# Altium integrated library TI Amplifiers and Linear Operational Amplifier High Speed.IntLib: 1100 symbols (part 26 of 44)
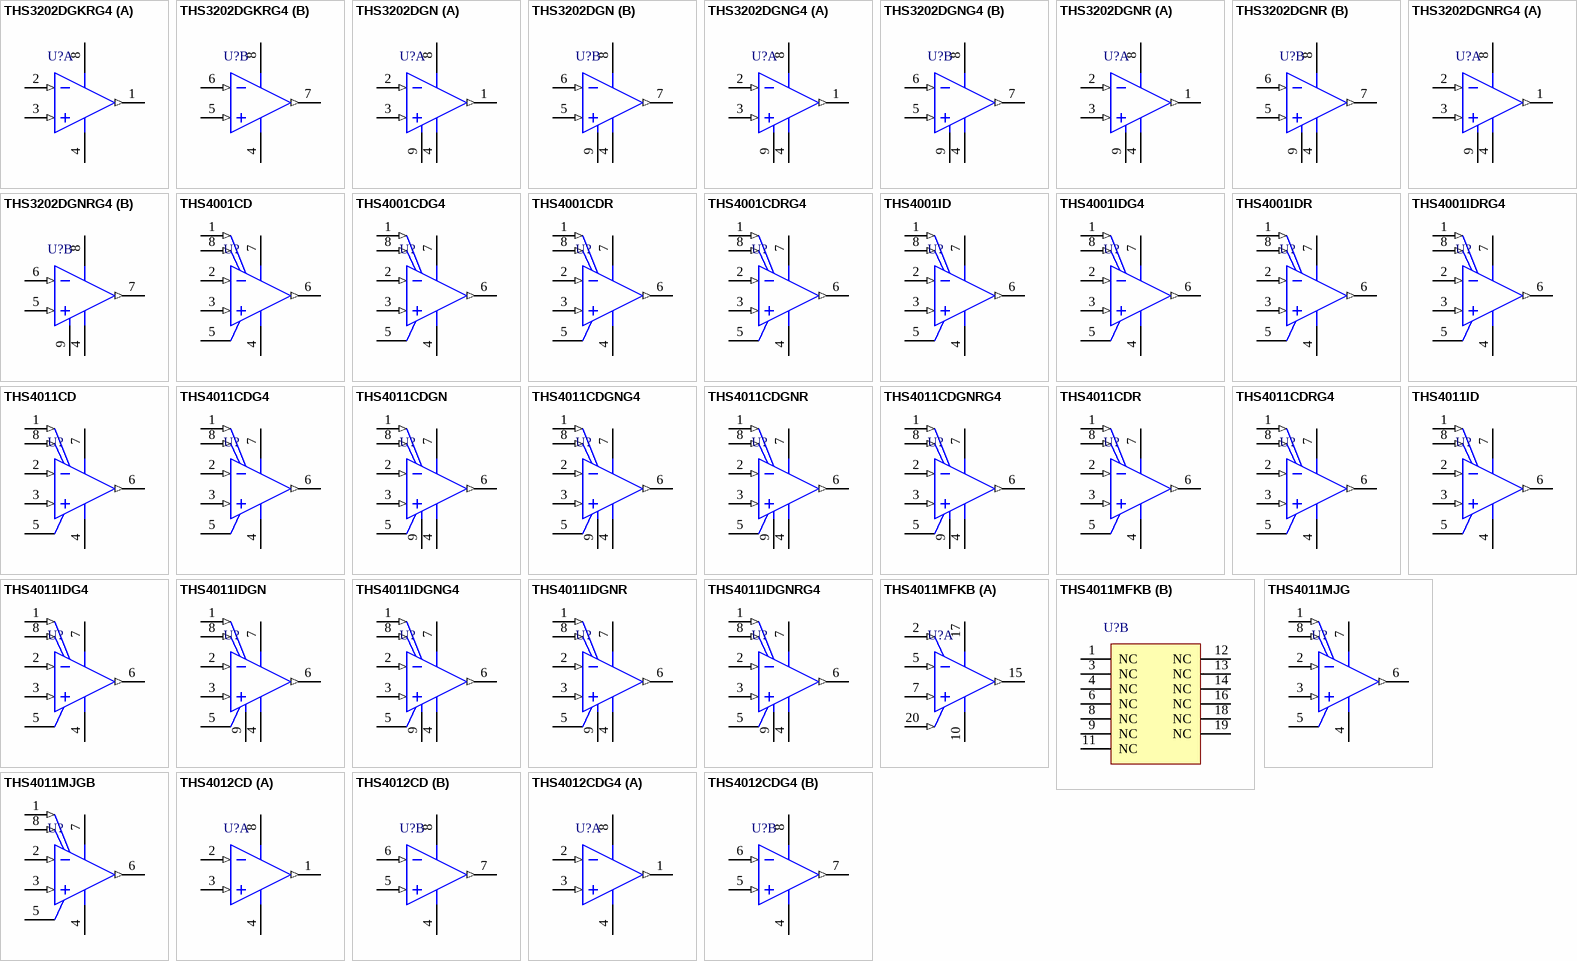
[diagram p76: symbols THS3202DGKRG4 to THS4012CDG4]

## THS3202DGNR
designator U?
2 GHz Current Feedback Amplifier, 6.6 to 15 V, -40 to 85 degC, 8-pin SOIC (DGN8), Green (RoHS & no Sb/Br); Manufacturer: Texas Instruments; PartNumber: THS3202DGNR; 2nd Harmonic(dBc): 69; 3rd Harmonic(dBc): 80; @ MHz: 16; Acl, min stable gain(V/V): 1; BW @ Acl(MHz): 2000; Diff Gain(%): 0.004; Diff Phase(deg): 0.006; Iib(Max)(nA): 50000; Io(Typ)(mA): 115; Iq per channel(Max)(mA): 20; Number of Channels: 2; Settling Time (0.1%)(Typ)(ns): 23; Slew Rate(Typ)(V/us): 9000; Sub Family: High Output Current Amplifier (>=50mA), High Speed Amplifier (>=50MHz); THD (Fc is 1 MHz)(Typ)(dB): -86; Vio(Max)(mV): 5; Vn at Flatband(Typ)(nV/rtHz): 1.65; Vs(Max)(V): 15; Vs(Min)(V): 6.6; DatasheetVersion: SLOS242F; PackageVersion: 4073271/F, 05/2011; PackageReference: DGN8-1760X1425TP; PackageDescription: 8-pin Plastic Small Outline, Body 3 x 3 mm, Pitch 0.65 mm; Supplier 1: Digi-Key; Supplier Part Number 1: THS3202DGNR-ND; Supplier 2: Newark; Supplier Part Number 2: 02E7110; Supplier 3: Mouser; Supplier Part Number 3: 595-THS3202DGNR; Eco-Plan: Green (RoHS & no Sb/Br); Mounting Technology: Surface Mount; Code_JEDEC: MO-187; ComponentLink1Description: Manufacturer URL; ComponentLink1URL: http://www.ti.com/; ComponentLink2Description: Datasheet; ComponentLink2URL: http://www.ti.com/general/docs/lit/getliterature.tsp?genericPartNumber=THS3202&fileType=pdf; ComponentLink3Description: Package Specification; ComponentLink3URL: http://www.ti.com/litv/pdf/mpds046e
footprint TI-DGN8-1760X1425TP_N (SOP, 8-Leads, Body 3x3mm, Pitch 0.65mm, Thermal Pad 1.76x1.425mm, IPC Medium Density)
footprint TI-DGN8-1760X1425TP_L (SOP, 8-Leads, Body 3x3mm, Pitch 0.65mm, Thermal Pad 1.76x1.425mm, IPC High Density)
footprint TI-DGN8-1760X1425TP_M (SOP, 8-Leads, Body 3x3mm, Pitch 0.65mm, Thermal Pad 1.76 x 1.425 mm, IPC Low Density)
pins on every part: 4 VS- (power), 8 VS+ (power), 9 EP (power)
part A pins: 1 VOUT1 (out), 2 VIN1- (in), 3 VIN1+ (in)
part B pins: 5 VIN2+ (in), 6 VIN2- (in), 7 VOUT2 (out)

## THS3202DGNRG4
designator U?
2 GHz Current Feedback Amplifier, 6.6 to 15 V, -40 to 85 degC, 8-pin SOIC (DGN8), Green (RoHS & no Sb/Br); Manufacturer: Texas Instruments; PartNumber: THS3202DGNRG4; 2nd Harmonic(dBc): 64; 3rd Harmonic(dBc): 67; @ MHz: 16; Acl, min stable gain(V/V): 1; BW @ Acl(MHz): 2000; Diff Gain(%): 0.004; Diff Phase(deg): 0.006; Iib(Max)(nA): 85000; Io(Typ)(mA): 115; Iq per channel(Max)(mA): 20; Number of Channels: 2; Settling Time (0.1%)(Typ)(ns): 23; Slew Rate(Typ)(V/us): 9000; Sub Family: High Output Current Amplifier (>=50mA), High Speed Amplifier (>=50MHz); THD (Fc is 1 MHz)(Typ)(dB): -86; Vio(Max)(mV): 5; Vn at Flatband(Typ)(nV/rtHz): 1.65; Vs(Max)(V): 15; Vs(Min)(V): 6.6; DatasheetVersion: SLOS242F; PackageVersion: 4073271/F, 05/2011; PackageReference: DGN8-1760X1425TP; PackageDescription: 8-pin Plastic Small Outline, Body 3 x 3 mm, Pitch 0.65 mm; Supplier 1: Digi-Key; Supplier Part Number 1: THS3202DGNRG4-ND; Supplier 2: Newark; Supplier Part Number 2: 54K0743; Supplier 3: Mouser; Supplier Part Number 3: 595-THS3202DGNRG4; Eco-Plan: Green (RoHS & no Sb/Br); Mounting Technology: Surface Mount; Code_JEDEC: MO-187; ComponentLink1Description: Manufacturer URL; ComponentLink1URL: http://www.ti.com/; ComponentLink2Description: Datasheet; ComponentLink2URL: http://www.ti.com/general/docs/lit/getliterature.tsp?genericPartNumber=THS3202&fileType=pdf; ComponentLink3Description: Package Specification; ComponentLink3URL: http://www.ti.com/litv/pdf/mpds046e
footprint TI-DGN8-1760X1425TP_N (SOP, 8-Leads, Body 3x3mm, Pitch 0.65mm, Thermal Pad 1.76x1.425mm, IPC Medium Density)
footprint TI-DGN8-1760X1425TP_L (SOP, 8-Leads, Body 3x3mm, Pitch 0.65mm, Thermal Pad 1.76x1.425mm, IPC High Density)
footprint TI-DGN8-1760X1425TP_M (SOP, 8-Leads, Body 3x3mm, Pitch 0.65mm, Thermal Pad 1.76 x 1.425 mm, IPC Low Density)
pins on every part: 4 VS- (power), 8 VS+ (power), 9 EP (power)
part A pins: 1 VOUT1 (out), 2 VIN1- (in), 3 VIN1+ (in)
part B pins: 5 VIN2+ (in), 6 VIN2- (in), 7 VOUT2 (out)

## THS4001CD
designator U?
270 MHz Voltage-Feedback Amplifier, 5 to 32 V, 0 to 70 degC, 8-pin SOIC (D8), Green (RoHS & no Sb/Br); Manufacturer: Texas Instruments; PartNumber: THS4001CD; 2nd Harmonic(dBc): 63; 3rd Harmonic(dBc): 60; @ MHz: 5; Acl, min stable gain(V/V): 1; BW @ Acl(MHz): 270; Diff Gain(%): 0.04; Diff Phase(deg): 0.15; Iib(Max)(nA): 5000; Io(Typ)(mA): 100; Iq per channel(Max)(mA): 9.5; Settling Time (0.1%)(Typ)(ns): 40; Slew Rate(Typ)(V/us): 400; Sub Family: High Output Current Amplifier (>=50mA), High Speed Amplifier (>=50MHz), High Supply Voltage Amplifier (>=30V); THD (Fc is 1 MHz)(Typ)(dB): -72; Vio(Max)(mV): 8; Vn at Flatband(Typ)(nV/rtHz): 12.5; Vs(Max)(V): 32; DatasheetVersion: SLOS206A; PackageVersion: 4040047-3/M, 06/2011; PackageReference: D8; PackageDescription: 8-Pin Plastic Small Outline, Body 4.9 x 3.9 mm, Pitch 1.27 mm; Supplier 1: Digi-Key; Supplier Part Number 1: 296-1763-5-ND; Supplier 2: Farnell; Supplier Part Number 2: 1214369; Supplier 3: Newark; Supplier Part Number 3: 01M9253; Supplier 4: Mouser; Supplier Part Number 4: 595-THS4001CD; Eco-Plan: Green (RoHS & no Sb/Br); Number of Channels: 1; Vs(Min)(V): 5; Mounting Technology: Surface Mount; Code_JEDEC: MS-012; ComponentLink1Description: Manufacturer URL; ComponentLink1URL: http://www.ti.com/; ComponentLink2Description: Datasheet; ComponentLink2URL: http://www.ti.com/general/docs/lit/getliterature.tsp?genericPartNumber=THS4001&fileType=pdf; ComponentLink3Description: Package Specification; ComponentLink3URL: http://www.ti.com/litv/pdf/msoi002j
footprint TI-D8_N (SOIC, 8-Leads, Body 4.9x3.9mm, Pitch 1.27mm, IPC Medium Density)
footprint TI-D8_L (SOIC, 8-Leads, Body 4.9x3.9mm, Pitch 1.27mm, IPC High Density)
footprint TI-D8_M (SOIC, 8-Leads, Body 4.9x3.9mm, Pitch 1.27mm, IPC Low Density)
pins: 1 NULL (in), 2 IN- (in), 3 IN+ (in), 4 VCC- (power), 5 NC, 6 OUT (out), 7 VCC+ (power), 8 NULL (in)

## THS4001CDG4
designator U?
270 MHz Voltage-Feedback Amplifier, 5 to 32 V, 0 to 70 degC, 8-pin SOIC (D8), Green (RoHS & no Sb/Br); Manufacturer: Texas Instruments; PartNumber: THS4001CDG4; 2nd Harmonic(dBc): 63; 3rd Harmonic(dBc): 60; @ MHz: 5; Acl, min stable gain(V/V): 1; BW @ Acl(MHz): 270; Diff Gain(%): 0.04; Diff Phase(deg): 0.15; Iib(Max)(nA): 5000; Io(Typ)(mA): 100; Iq per channel(Max)(mA): 9.5; Settling Time (0.1%)(Typ)(ns): 40; Slew Rate(Typ)(V/us): 400; Sub Family: High Output Current Amplifier (>=50mA), High Speed Amplifier (>=50MHz), High Supply Voltage Amplifier (>=30V); THD (Fc is 1 MHz)(Typ)(dB): -72; Vio(Max)(mV): 8; Vn at Flatband(Typ)(nV/rtHz): 12.5; Vs(Max)(V): 32; DatasheetVersion: SLOS206A; PackageVersion: 4040047-3/M, 06/2011; PackageReference: D8; PackageDescription: 8-Pin Plastic Small Outline, Body 4.9 x 3.9 mm, Pitch 1.27 mm; Supplier 1: Digi-Key; Supplier Part Number 1: THS4001CDG4-ND; Supplier 2: Mouser; Supplier Part Number 2: 595-THS4001CDG4; Eco-Plan: Green (RoHS & no Sb/Br); Number of Channels: 1; Vs(Min)(V): 5; Mounting Technology: Surface Mount; Code_JEDEC: MS-012; ComponentLink1Description: Manufacturer URL; ComponentLink1URL: http://www.ti.com/; ComponentLink2Description: Datasheet; ComponentLink2URL: http://www.ti.com/general/docs/lit/getliterature.tsp?genericPartNumber=THS4001&fileType=pdf; ComponentLink3Description: Package Specification; ComponentLink3URL: http://www.ti.com/litv/pdf/msoi002j
footprint TI-D8_N (SOIC, 8-Leads, Body 4.9x3.9mm, Pitch 1.27mm, IPC Medium Density)
footprint TI-D8_L (SOIC, 8-Leads, Body 4.9x3.9mm, Pitch 1.27mm, IPC High Density)
footprint TI-D8_M (SOIC, 8-Leads, Body 4.9x3.9mm, Pitch 1.27mm, IPC Low Density)
pins: 1 NULL (in), 2 IN- (in), 3 IN+ (in), 4 VCC- (power), 5 NC, 6 OUT (out), 7 VCC+ (power), 8 NULL (in)

## THS4001CDR
designator U?
270 MHz Voltage-Feedback Amplifier, 5 to 32 V, 0 to 70 degC, 8-pin SOIC (D8), Green (RoHS & no Sb/Br); Manufacturer: Texas Instruments; PartNumber: THS4001CDR; 2nd Harmonic(dBc): 63; 3rd Harmonic(dBc): 60; @ MHz: 5; Acl, min stable gain(V/V): 1; BW @ Acl(MHz): 270; Diff Gain(%): 0.04; Diff Phase(deg): 0.15; Iib(Max)(nA): 5000; Io(Typ)(mA): 100; Iq per channel(Max)(mA): 9.5; Settling Time (0.1%)(Typ)(ns): 40; Slew Rate(Typ)(V/us): 400; Sub Family: High Output Current Amplifier (>=50mA), High Speed Amplifier (>=50MHz), High Supply Voltage Amplifier (>=30V); THD (Fc is 1 MHz)(Typ)(dB): -72; Vio(Max)(mV): 8; Vn at Flatband(Typ)(nV/rtHz): 12.5; Vs(Max)(V): 32; DatasheetVersion: SLOS206A; PackageVersion: 4040047-3/M, 06/2011; PackageReference: D8; PackageDescription: 8-Pin Plastic Small Outline, Body 4.9 x 3.9 mm, Pitch 1.27 mm; Supplier 1: Digi-Key; Supplier Part Number 1: THS4001CDR-ND; Supplier 2: Mouser; Supplier Part Number 2: 595-THS4001CDR; Eco-Plan: Green (RoHS & no Sb/Br); Number of Channels: 1; Vs(Min)(V): 5; Mounting Technology: Surface Mount; Code_JEDEC: MS-012; ComponentLink1Description: Manufacturer URL; ComponentLink1URL: http://www.ti.com/; ComponentLink2Description: Datasheet; ComponentLink2URL: http://www.ti.com/general/docs/lit/getliterature.tsp?genericPartNumber=THS4001&fileType=pdf; ComponentLink3Description: Package Specification; ComponentLink3URL: http://www.ti.com/litv/pdf/msoi002j
footprint TI-D8_N (SOIC, 8-Leads, Body 4.9x3.9mm, Pitch 1.27mm, IPC Medium Density)
footprint TI-D8_L (SOIC, 8-Leads, Body 4.9x3.9mm, Pitch 1.27mm, IPC High Density)
footprint TI-D8_M (SOIC, 8-Leads, Body 4.9x3.9mm, Pitch 1.27mm, IPC Low Density)
pins: 1 NULL (in), 2 IN- (in), 3 IN+ (in), 4 VCC- (power), 5 NC, 6 OUT (out), 7 VCC+ (power), 8 NULL (in)

## THS4001CDRG4
designator U?
270 MHz Voltage-Feedback Amplifier, 5 to 32 V, 0 to 70 degC, 8-pin SOIC (D8), Green (RoHS & no Sb/Br); Manufacturer: Texas Instruments; PartNumber: THS4001CDRG4; 2nd Harmonic(dBc): 63; 3rd Harmonic(dBc): 60; @ MHz: 5; Acl, min stable gain(V/V): 1; BW @ Acl(MHz): 270; Diff Gain(%): 0.04; Diff Phase(deg): 0.15; Iib(Max)(nA): 5000; Io(Typ)(mA): 100; Iq per channel(Max)(mA): 9.5; Settling Time (0.1%)(Typ)(ns): 40; Slew Rate(Typ)(V/us): 400; Sub Family: High Output Current Amplifier (>=50mA), High Speed Amplifier (>=50MHz), High Supply Voltage Amplifier (>=30V); THD (Fc is 1 MHz)(Typ)(dB): -72; Vio(Max)(mV): 8; Vn at Flatband(Typ)(nV/rtHz): 12.5; Vs(Max)(V): 32; DatasheetVersion: SLOS206A; PackageVersion: 4040047-3/M, 06/2011; PackageReference: D8; PackageDescription: 8-Pin Plastic Small Outline, Body 4.9 x 3.9 mm, Pitch 1.27 mm; Supplier 1: Digi-Key; Supplier Part Number 1: THS4001CDRG4-ND; Supplier 2: Mouser; Supplier Part Number 2: 595-THS4001CDRG4; Eco-Plan: Green (RoHS & no Sb/Br); Number of Channels: 1; Vs(Min)(V): 5; Mounting Technology: Surface Mount; Code_JEDEC: MS-012; ComponentLink1Description: Manufacturer URL; ComponentLink1URL: http://www.ti.com/; ComponentLink2Description: Datasheet; ComponentLink2URL: http://www.ti.com/general/docs/lit/getliterature.tsp?genericPartNumber=THS4001&fileType=pdf; ComponentLink3Description: Package Specification; ComponentLink3URL: http://www.ti.com/litv/pdf/msoi002j
footprint TI-D8_N (SOIC, 8-Leads, Body 4.9x3.9mm, Pitch 1.27mm, IPC Medium Density)
footprint TI-D8_L (SOIC, 8-Leads, Body 4.9x3.9mm, Pitch 1.27mm, IPC High Density)
footprint TI-D8_M (SOIC, 8-Leads, Body 4.9x3.9mm, Pitch 1.27mm, IPC Low Density)
pins: 1 NULL (in), 2 IN- (in), 3 IN+ (in), 4 VCC- (power), 5 NC, 6 OUT (out), 7 VCC+ (power), 8 NULL (in)

## THS4001ID
designator U?
270 MHz Voltage-Feedback Amplifier, 5 to 32 V, -40 to 85 degC, 8-pin SOIC (D8), Green (RoHS & no Sb/Br); Manufacturer: Texas Instruments; PartNumber: THS4001ID; 2nd Harmonic(dBc): 63; 3rd Harmonic(dBc): 60; @ MHz: 5; Acl, min stable gain(V/V): 1; BW @ Acl(MHz): 270; Diff Gain(%): 0.04; Diff Phase(deg): 0.15; Iib(Max)(nA): 5000; Io(Typ)(mA): 100; Iq per channel(Max)(mA): 9.5; Settling Time (0.1%)(Typ)(ns): 40; Slew Rate(Typ)(V/us): 400; Sub Family: High Output Current Amplifier (>=50mA), High Speed Amplifier (>=50MHz), High Supply Voltage Amplifier (>=30V); THD (Fc is 1 MHz)(Typ)(dB): -72; Vio(Max)(mV): 8; Vn at Flatband(Typ)(nV/rtHz): 12.5; Vs(Max)(V): 32; DatasheetVersion: SLOS206A; PackageVersion: 4040047-3/M, 06/2011; PackageReference: D8; PackageDescription: 8-Pin Plastic Small Outline, Body 4.9 x 3.9 mm, Pitch 1.27 mm; Supplier 1: Digi-Key; Supplier Part Number 1: 296-1764-5-ND; Supplier 2: Farnell; Supplier Part Number 2: 1102960; Supplier 3: Newark; Supplier Part Number 3: 24M8255; Supplier 4: Newark; Supplier Part Number 4: 76C6271; Supplier 5: Mouser; Supplier Part Number 5: 595-THS4001ID; Eco-Plan: Green (RoHS & no Sb/Br); Number of Channels: 1; Vs(Min)(V): 5; Mounting Technology: Surface Mount; Code_JEDEC: MS-012; ComponentLink1Description: Manufacturer URL; ComponentLink1URL: http://www.ti.com/; ComponentLink2Description: Datasheet; ComponentLink2URL: http://www.ti.com/general/docs/lit/getliterature.tsp?genericPartNumber=THS4001&fileType=pdf; ComponentLink3Description: Package Specification; ComponentLink3URL: http://www.ti.com/litv/pdf/msoi002j
footprint TI-D8_N (SOIC, 8-Leads, Body 4.9x3.9mm, Pitch 1.27mm, IPC Medium Density)
footprint TI-D8_L (SOIC, 8-Leads, Body 4.9x3.9mm, Pitch 1.27mm, IPC High Density)
footprint TI-D8_M (SOIC, 8-Leads, Body 4.9x3.9mm, Pitch 1.27mm, IPC Low Density)
pins: 1 NULL (in), 2 IN- (in), 3 IN+ (in), 4 VCC- (power), 5 NC, 6 OUT (out), 7 VCC+ (power), 8 NULL (in)

## THS4001IDG4
designator U?
270 MHz Voltage-Feedback Amplifier, 5 to 32 V, -40 to 85 degC, 8-pin SOIC (D8), Green (RoHS & no Sb/Br); Manufacturer: Texas Instruments; PartNumber: THS4001IDG4; 2nd Harmonic(dBc): 63; 3rd Harmonic(dBc): 60; @ MHz: 5; Acl, min stable gain(V/V): 1; BW @ Acl(MHz): 270; Diff Gain(%): 0.04; Diff Phase(deg): 0.15; Iib(Max)(nA): 5000; Io(Typ)(mA): 100; Iq per channel(Max)(mA): 9.5; Settling Time (0.1%)(Typ)(ns): 40; Slew Rate(Typ)(V/us): 400; Sub Family: High Output Current Amplifier (>=50mA), High Speed Amplifier (>=50MHz), High Supply Voltage Amplifier (>=30V); THD (Fc is 1 MHz)(Typ)(dB): -72; Vio(Max)(mV): 8; Vn at Flatband(Typ)(nV/rtHz): 12.5; Vs(Max)(V): 32; DatasheetVersion: SLOS206A; PackageVersion: 4040047-3/M, 06/2011; PackageReference: D8; PackageDescription: 8-Pin Plastic Small Outline, Body 4.9 x 3.9 mm, Pitch 1.27 mm; Supplier 1: Digi-Key; Supplier Part Number 1: THS4001IDG4-ND; Supplier 2: Newark; Supplier Part Number 2: 80K3224; Supplier 3: Mouser; Supplier Part Number 3: 595-THS4001IDG4; Eco-Plan: Green (RoHS & no Sb/Br); Number of Channels: 1; Vs(Min)(V): 5; Mounting Technology: Surface Mount; Code_JEDEC: MS-012; ComponentLink1Description: Manufacturer URL; ComponentLink1URL: http://www.ti.com/; ComponentLink2Description: Datasheet; ComponentLink2URL: http://www.ti.com/general/docs/lit/getliterature.tsp?genericPartNumber=THS4001&fileType=pdf; ComponentLink3Description: Package Specification; ComponentLink3URL: http://www.ti.com/litv/pdf/msoi002j
footprint TI-D8_N (SOIC, 8-Leads, Body 4.9x3.9mm, Pitch 1.27mm, IPC Medium Density)
footprint TI-D8_L (SOIC, 8-Leads, Body 4.9x3.9mm, Pitch 1.27mm, IPC High Density)
footprint TI-D8_M (SOIC, 8-Leads, Body 4.9x3.9mm, Pitch 1.27mm, IPC Low Density)
pins: 1 NULL (in), 2 IN- (in), 3 IN+ (in), 4 VCC- (power), 5 NC, 6 OUT (out), 7 VCC+ (power), 8 NULL (in)

## THS4001IDR
designator U?
270 MHz Voltage-Feedback Amplifier, 5 to 32 V, -40 to 85 degC, 8-pin SOIC (D8), Green (RoHS & no Sb/Br); Manufacturer: Texas Instruments; PartNumber: THS4001IDR; 2nd Harmonic(dBc): 63; 3rd Harmonic(dBc): 60; @ MHz: 5; Acl, min stable gain(V/V): 1; BW @ Acl(MHz): 270; Diff Gain(%): 0.04; Diff Phase(deg): 0.15; Iib(Max)(nA): 5000; Io(Typ)(mA): 100; Iq per channel(Max)(mA): 9.5; Settling Time (0.1%)(Typ)(ns): 40; Slew Rate(Typ)(V/us): 400; Sub Family: High Output Current Amplifier (>=50mA), High Speed Amplifier (>=50MHz), High Supply Voltage Amplifier (>=30V); THD (Fc is 1 MHz)(Typ)(dB): -72; Vio(Max)(mV): 8; Vn at Flatband(Typ)(nV/rtHz): 12.5; Vs(Max)(V): 32; DatasheetVersion: SLOS206A; PackageVersion: 4040047-3/M, 06/2011; PackageReference: D8; PackageDescription: 8-Pin Plastic Small Outline, Body 4.9 x 3.9 mm, Pitch 1.27 mm; Supplier 1: Digi-Key; Supplier Part Number 1: THS4001IDR-ND; Supplier 2: Mouser; Supplier Part Number 2: 595-THS4001IDR; Eco-Plan: Green (RoHS & no Sb/Br); Number of Channels: 1; Vs(Min)(V): 5; Mounting Technology: Surface Mount; Code_JEDEC: MS-012; ComponentLink1Description: Manufacturer URL; ComponentLink1URL: http://www.ti.com/; ComponentLink2Description: Datasheet; ComponentLink2URL: http://www.ti.com/general/docs/lit/getliterature.tsp?genericPartNumber=THS4001&fileType=pdf; ComponentLink3Description: Package Specification; ComponentLink3URL: http://www.ti.com/litv/pdf/msoi002j
footprint TI-D8_N (SOIC, 8-Leads, Body 4.9x3.9mm, Pitch 1.27mm, IPC Medium Density)
footprint TI-D8_L (SOIC, 8-Leads, Body 4.9x3.9mm, Pitch 1.27mm, IPC High Density)
footprint TI-D8_M (SOIC, 8-Leads, Body 4.9x3.9mm, Pitch 1.27mm, IPC Low Density)
pins: 1 NULL (in), 2 IN- (in), 3 IN+ (in), 4 VCC- (power), 5 NC, 6 OUT (out), 7 VCC+ (power), 8 NULL (in)

## THS4001IDRG4
designator U?
270 MHz Voltage-Feedback Amplifier, 5 to 32 V, -40 to 85 degC, 8-pin SOIC (D8), Green (RoHS & no Sb/Br); Manufacturer: Texas Instruments; PartNumber: THS4001IDRG4; 2nd Harmonic(dBc): 63; 3rd Harmonic(dBc): 60; @ MHz: 5; Acl, min stable gain(V/V): 1; BW @ Acl(MHz): 270; Diff Gain(%): 0.04; Diff Phase(deg): 0.15; Iib(Max)(nA): 5000; Io(Typ)(mA): 100; Iq per channel(Max)(mA): 9.5; Settling Time (0.1%)(Typ)(ns): 40; Slew Rate(Typ)(V/us): 400; Sub Family: High Output Current Amplifier (>=50mA), High Speed Amplifier (>=50MHz), High Supply Voltage Amplifier (>=30V); THD (Fc is 1 MHz)(Typ)(dB): -72; Vio(Max)(mV): 8; Vn at Flatband(Typ)(nV/rtHz): 12.5; Vs(Max)(V): 32; DatasheetVersion: SLOS206A; PackageVersion: 4040047-3/M, 06/2011; PackageReference: D8; PackageDescription: 8-Pin Plastic Small Outline, Body 4.9 x 3.9 mm, Pitch 1.27 mm; Supplier 1: Digi-Key; Supplier Part Number 1: THS4001IDRG4-ND; Supplier 2: Mouser; Supplier Part Number 2: 595-THS4001IDRG4; Eco-Plan: Green (RoHS & no Sb/Br); Number of Channels: 1; Vs(Min)(V): 5; Mounting Technology: Surface Mount; Code_JEDEC: MS-012; ComponentLink1Description: Manufacturer URL; ComponentLink1URL: http://www.ti.com/; ComponentLink2Description: Datasheet; ComponentLink2URL: http://www.ti.com/general/docs/lit/getliterature.tsp?genericPartNumber=THS4001&fileType=pdf; ComponentLink3Description: Package Specification; ComponentLink3URL: http://www.ti.com/litv/pdf/msoi002j
footprint TI-D8_N (SOIC, 8-Leads, Body 4.9x3.9mm, Pitch 1.27mm, IPC Medium Density)
footprint TI-D8_L (SOIC, 8-Leads, Body 4.9x3.9mm, Pitch 1.27mm, IPC High Density)
footprint TI-D8_M (SOIC, 8-Leads, Body 4.9x3.9mm, Pitch 1.27mm, IPC Low Density)
pins: 1 NULL (in), 2 IN- (in), 3 IN+ (in), 4 VCC- (power), 5 NC, 6 OUT (out), 7 VCC+ (power), 8 NULL (in)

## THS4011CD
designator U?
290 MHz Low-Distortion Voltage-Feedback Amplifier, 9 to 32 V, 0 to 70 degC, 8-pin SOIC (D8), Green (RoHS & no Sb/Br); Manufacturer: Texas Instruments; PartNumber: THS4011CD; 2nd Harmonic(dBc): 64; 3rd Harmonic(dBc): 78; @ MHz: 5; Acl, min stable gain(V/V): 1; BW @ Acl(MHz): 290; Diff Gain(%): 0.006; Diff Phase(deg): 0.01; Iib(Max)(nA): 8000; Io(Typ)(mA): 110; Iq per channel(Max)(mA): 11; Settling Time (0.1%)(Typ)(ns): 37; Slew Rate(Typ)(V/us): 310; Sub Family: High Output Current Amplifier (>=50mA), High Speed Amplifier (>=50MHz), High Supply Voltage Amplifier (>=30V); THD (Fc is 1 MHz)(Typ)(dB): -80; Vio(Max)(mV): 6; Vn at Flatband(Typ)(nV/rtHz): 7.5; Vs(Max)(V): 32; Vs(Min)(V): 9; DatasheetVersion: SLOS216E; PackageVersion: 4040047-3/M, 06/2011; PackageReference: D8; PackageDescription: 8-Pin Plastic Small Outline, Body 4.9 x 3.9 mm, Pitch 1.27 mm; Supplier 1: Digi-Key; Supplier Part Number 1: 296-2404-5-ND; Supplier 2: Farnell; Supplier Part Number 2: 8453110; Supplier 3: Newark; Supplier Part Number 3: 38K8238; Supplier 4: Newark; Supplier Part Number 4: 19C8971; Supplier 5: Mouser; Supplier Part Number 5: 595-THS4011CD; Eco-Plan: Green (RoHS & no Sb/Br); Number of Channels: 1; Mounting Technology: Surface Mount; Code_JEDEC: MS-012; ComponentLink1Description: Manufacturer URL; ComponentLink1URL: http://www.ti.com/; ComponentLink2Description: Datasheet; ComponentLink2URL: http://www.ti.com/general/docs/lit/getliterature.tsp?genericPartNumber=THS4011&fileType=pdf; ComponentLink3Description: Package Specification; ComponentLink3URL: http://www.ti.com/litv/pdf/msoi002j
footprint TI-D8_N (SOIC, 8-Leads, Body 4.9x3.9mm, Pitch 1.27mm, IPC Medium Density)
footprint TI-D8_L (SOIC, 8-Leads, Body 4.9x3.9mm, Pitch 1.27mm, IPC High Density)
footprint TI-D8_M (SOIC, 8-Leads, Body 4.9x3.9mm, Pitch 1.27mm, IPC Low Density)
pins: 1 NULL (in), 2 IN- (in), 3 IN+ (in), 4 VCC- (power), 5 NC, 6 OUT (out), 7 VCC+ (power), 8 NULL (in)

## THS4011CDG4
designator U?
290 MHz Low-Distortion Voltage-Feedback Amplifier, 9 to 32 V, 0 to 70 degC, 8-pin SOIC (D8), Green (RoHS & no Sb/Br); Manufacturer: Texas Instruments; PartNumber: THS4011CDG4; 2nd Harmonic(dBc): 64; 3rd Harmonic(dBc): 78; @ MHz: 5; Acl, min stable gain(V/V): 1; BW @ Acl(MHz): 290; Diff Gain(%): 0.006; Diff Phase(deg): 0.01; Iib(Max)(nA): 8000; Io(Typ)(mA): 110; Iq per channel(Max)(mA): 11; Settling Time (0.1%)(Typ)(ns): 37; Slew Rate(Typ)(V/us): 310; Sub Family: High Output Current Amplifier (>=50mA), High Speed Amplifier (>=50MHz), High Supply Voltage Amplifier (>=30V); THD (Fc is 1 MHz)(Typ)(dB): -80; Vio(Max)(mV): 6; Vn at Flatband(Typ)(nV/rtHz): 7.5; Vs(Max)(V): 32; Vs(Min)(V): 9; DatasheetVersion: SLOS216E; PackageVersion: 4040047-3/M, 06/2011; PackageReference: D8; PackageDescription: 8-Pin Plastic Small Outline, Body 4.9 x 3.9 mm, Pitch 1.27 mm; Supplier 1: Digi-Key; Supplier Part Number 1: THS4011CDG4-ND; Supplier 2: Mouser; Supplier Part Number 2: 595-THS4011CDG4; Eco-Plan: Green (RoHS & no Sb/Br); Number of Channels: 1; Mounting Technology: Surface Mount; Code_JEDEC: MS-012; ComponentLink1Description: Manufacturer URL; ComponentLink1URL: http://www.ti.com/; ComponentLink2Description: Datasheet; ComponentLink2URL: http://www.ti.com/general/docs/lit/getliterature.tsp?genericPartNumber=THS4011&fileType=pdf; ComponentLink3Description: Package Specification; ComponentLink3URL: http://www.ti.com/litv/pdf/msoi002j
footprint TI-D8_N (SOIC, 8-Leads, Body 4.9x3.9mm, Pitch 1.27mm, IPC Medium Density)
footprint TI-D8_L (SOIC, 8-Leads, Body 4.9x3.9mm, Pitch 1.27mm, IPC High Density)
footprint TI-D8_M (SOIC, 8-Leads, Body 4.9x3.9mm, Pitch 1.27mm, IPC Low Density)
pins: 1 NULL (in), 2 IN- (in), 3 IN+ (in), 4 VCC- (power), 5 NC, 6 OUT (out), 7 VCC+ (power), 8 NULL (in)

## THS4011CDGN
designator U?
290 MHz Low-Distortion Voltage-Feedback Amplifier, 9 to 32 V, 0 to 70 degC, 8-pin SOP (DGN8), Green (RoHS & no Sb/Br); Manufacturer: Texas Instruments; PartNumber: THS4011CDGN; 2nd Harmonic(dBc): 64; 3rd Harmonic(dBc): 78; @ MHz: 5; Acl, min stable gain(V/V): 1; BW @ Acl(MHz): 290; Diff Gain(%): 0.006; Diff Phase(deg): 0.01; Iib(Max)(nA): 8000; Io(Typ)(mA): 110; Iq per channel(Max)(mA): 11; Settling Time (0.1%)(Typ)(ns): 37; Slew Rate(Typ)(V/us): 310; Sub Family: High Output Current Amplifier (>=50mA), High Speed Amplifier (>=50MHz), High Supply Voltage Amplifier (>=30V); THD (Fc is 1 MHz)(Typ)(dB): -80; Vio(Max)(mV): 6; Vn at Flatband(Typ)(nV/rtHz): 7.5; Vs(Max)(V): 32; Vs(Min)(V): 9; DatasheetVersion: SLOS216E; PackageVersion: 4073271/F, 05/2011; PackageReference: DGN8-1760X1425TP; PackageDescription: 8-pin Plastic Small Outline, Body 3 x 3 mm, Pitch 0.65 mm; Supplier 1: Digi-Key; Supplier Part Number 1: 296-34202-5-ND; Supplier 2: Newark; Supplier Part Number 2: 76C6273; Supplier 3: Mouser; Supplier Part Number 3: 595-THS4011CDGN; Eco-Plan: Green (RoHS & no Sb/Br); Number of Channels: 1; Mounting Technology: Surface Mount; Code_JEDEC: MO-187; ComponentLink1Description: Manufacturer URL; ComponentLink1URL: http://www.ti.com/; ComponentLink2Description: Datasheet; ComponentLink2URL: http://www.ti.com/general/docs/lit/getliterature.tsp?genericPartNumber=THS4011&fileType=pdf; ComponentLink3Description: Package Specification; ComponentLink3URL: http://www.ti.com/litv/pdf/mpds046e
footprint TI-DGN8-1760X1425TP_N (SOP, 8-Leads, Body 3x3mm, Pitch 0.65mm, Thermal Pad 1.76x1.425mm, IPC Medium Density)
footprint TI-DGN8-1760X1425TP_L (SOP, 8-Leads, Body 3x3mm, Pitch 0.65mm, Thermal Pad 1.76x1.425mm, IPC High Density)
footprint TI-DGN8-1760X1425TP_M (SOP, 8-Leads, Body 3x3mm, Pitch 0.65mm, Thermal Pad 1.76 x 1.425 mm, IPC Low Density)
pins: 1 NULL (in), 2 IN- (in), 3 IN+ (in), 4 VCC- (power), 5 NC, 6 OUT (out), 7 VCC+ (power), 8 NULL (in), 9 EP (power)

## THS4011CDGNG4
designator U?
290 MHz Low-Distortion Voltage-Feedback Amplifier, 9 to 32 V, 0 to 70 degC, 8-pin SOP (DGN8), Green (RoHS & no Sb/Br); Manufacturer: Texas Instruments; PartNumber: THS4011CDGNG4; 2nd Harmonic(dBc): 64; 3rd Harmonic(dBc): 78; @ MHz: 5; Acl, min stable gain(V/V): 1; BW @ Acl(MHz): 290; Diff Gain(%): 0.006; Diff Phase(deg): 0.01; Iib(Max)(nA): 8000; Io(Typ)(mA): 110; Iq per channel(Max)(mA): 11; Settling Time (0.1%)(Typ)(ns): 37; Slew Rate(Typ)(V/us): 310; Sub Family: High Output Current Amplifier (>=50mA), High Speed Amplifier (>=50MHz), High Supply Voltage Amplifier (>=30V); THD (Fc is 1 MHz)(Typ)(dB): -80; Vio(Max)(mV): 6; Vn at Flatband(Typ)(nV/rtHz): 7.5; Vs(Max)(V): 32; Vs(Min)(V): 9; DatasheetVersion: SLOS216E; PackageVersion: 4073271/F, 05/2011; PackageReference: DGN8-1760X1425TP; PackageDescription: 8-pin Plastic Small Outline, Body 3 x 3 mm, Pitch 0.65 mm; Supplier 1: Digi-Key; Supplier Part Number 1: THS4011CDGNG4-ND; Supplier 2: Mouser; Supplier Part Number 2: 595-THS4011CDGNG4; Eco-Plan: Green (RoHS & no Sb/Br); Number of Channels: 1; Mounting Technology: Surface Mount; Code_JEDEC: MO-187; ComponentLink1Description: Manufacturer URL; ComponentLink1URL: http://www.ti.com/; ComponentLink2Description: Datasheet; ComponentLink2URL: http://www.ti.com/general/docs/lit/getliterature.tsp?genericPartNumber=THS4011&fileType=pdf; ComponentLink3Description: Package Specification; ComponentLink3URL: http://www.ti.com/litv/pdf/mpds046e
footprint TI-DGN8-1760X1425TP_N (SOP, 8-Leads, Body 3x3mm, Pitch 0.65mm, Thermal Pad 1.76x1.425mm, IPC Medium Density)
footprint TI-DGN8-1760X1425TP_L (SOP, 8-Leads, Body 3x3mm, Pitch 0.65mm, Thermal Pad 1.76x1.425mm, IPC High Density)
footprint TI-DGN8-1760X1425TP_M (SOP, 8-Leads, Body 3x3mm, Pitch 0.65mm, Thermal Pad 1.76 x 1.425 mm, IPC Low Density)
pins: 1 NULL (in), 2 IN- (in), 3 IN+ (in), 4 VCC- (power), 5 NC, 6 OUT (out), 7 VCC+ (power), 8 NULL (in), 9 EP (power)

## THS4011CDGNR
designator U?
290 MHz Low-Distortion Voltage-Feedback Amplifier, 9 to 32 V, 0 to 70 degC, 8-pin SOP (DGN8), Green (RoHS & no Sb/Br); Manufacturer: Texas Instruments; PartNumber: THS4011CDGNR; 2nd Harmonic(dBc): 64; 3rd Harmonic(dBc): 78; @ MHz: 5; Acl, min stable gain(V/V): 1; BW @ Acl(MHz): 290; Diff Gain(%): 0.006; Diff Phase(deg): 0.01; Iib(Max)(nA): 8000; Io(Typ)(mA): 110; Iq per channel(Max)(mA): 11; Settling Time (0.1%)(Typ)(ns): 37; Slew Rate(Typ)(V/us): 310; Sub Family: High Output Current Amplifier (>=50mA), High Speed Amplifier (>=50MHz), High Supply Voltage Amplifier (>=30V); THD (Fc is 1 MHz)(Typ)(dB): -80; Vio(Max)(mV): 6; Vn at Flatband(Typ)(nV/rtHz): 7.5; Vs(Max)(V): 32; Vs(Min)(V): 9; DatasheetVersion: SLOS216E; PackageVersion: 4073271/F, 05/2011; PackageReference: DGN8-1760X1425TP; PackageDescription: 8-pin Plastic Small Outline, Body 3 x 3 mm, Pitch 0.65 mm; Supplier 1: Digi-Key; Supplier Part Number 1: 296-7508-2-ND; Supplier 2: Digi-Key; Supplier Part Number 2: 296-7508-1-ND; Supplier 3: Digi-Key; Supplier Part Number 3: 296-7508-6-ND; Supplier 4: Newark; Supplier Part Number 4: 76C6274; Supplier 5: Mouser; Supplier Part Number 5: 595-THS4011CDGNR; Eco-Plan: Green (RoHS & no Sb/Br); Number of Channels: 1; Mounting Technology: Surface Mount; Code_JEDEC: MO-187; ComponentLink1Description: Manufacturer URL; ComponentLink1URL: http://www.ti.com/; ComponentLink2Description: Datasheet; ComponentLink2URL: http://www.ti.com/general/docs/lit/getliterature.tsp?genericPartNumber=THS4011&fileType=pdf; ComponentLink3Description: Package Specification; ComponentLink3URL: http://www.ti.com/litv/pdf/mpds046e
footprint TI-DGN8-1760X1425TP_N (SOP, 8-Leads, Body 3x3mm, Pitch 0.65mm, Thermal Pad 1.76x1.425mm, IPC Medium Density)
footprint TI-DGN8-1760X1425TP_L (SOP, 8-Leads, Body 3x3mm, Pitch 0.65mm, Thermal Pad 1.76x1.425mm, IPC High Density)
footprint TI-DGN8-1760X1425TP_M (SOP, 8-Leads, Body 3x3mm, Pitch 0.65mm, Thermal Pad 1.76 x 1.425 mm, IPC Low Density)
pins: 1 NULL (in), 2 IN- (in), 3 IN+ (in), 4 VCC- (power), 5 NC, 6 OUT (out), 7 VCC+ (power), 8 NULL (in), 9 EP (power)

## THS4011CDGNRG4
designator U?
290 MHz Low-Distortion Voltage-Feedback Amplifier, 9 to 32 V, 0 to 70 degC, 8-pin SOP (DGN8), Green (RoHS & no Sb/Br); Manufacturer: Texas Instruments; PartNumber: THS4011CDGNRG4; 2nd Harmonic(dBc): 64; 3rd Harmonic(dBc): 78; @ MHz: 5; Acl, min stable gain(V/V): 1; BW @ Acl(MHz): 290; Diff Gain(%): 0.006; Diff Phase(deg): 0.01; Iib(Max)(nA): 8000; Io(Typ)(mA): 110; Iq per channel(Max)(mA): 11; Settling Time (0.1%)(Typ)(ns): 37; Slew Rate(Typ)(V/us): 310; Sub Family: High Output Current Amplifier (>=50mA), High Speed Amplifier (>=50MHz), High Supply Voltage Amplifier (>=30V); THD (Fc is 1 MHz)(Typ)(dB): -80; Vio(Max)(mV): 6; Vn at Flatband(Typ)(nV/rtHz): 7.5; Vs(Max)(V): 32; Vs(Min)(V): 9; DatasheetVersion: SLOS216E; PackageVersion: 4073271/F, 05/2011; PackageReference: DGN8-1760X1425TP; PackageDescription: 8-pin Plastic Small Outline, Body 3 x 3 mm, Pitch 0.65 mm; Supplier 1: Digi-Key; Supplier Part Number 1: THS4011CDGNRG4-ND; Supplier 2: Mouser; Supplier Part Number 2: 595-THS4011CDGNRG4; Eco-Plan: Green (RoHS & no Sb/Br); Number of Channels: 1; Mounting Technology: Surface Mount; Code_JEDEC: MO-187; ComponentLink1Description: Manufacturer URL; ComponentLink1URL: http://www.ti.com/; ComponentLink2Description: Datasheet; ComponentLink2URL: http://www.ti.com/general/docs/lit/getliterature.tsp?genericPartNumber=THS4011&fileType=pdf; ComponentLink3Description: Package Specification; ComponentLink3URL: http://www.ti.com/litv/pdf/mpds046e
footprint TI-DGN8-1760X1425TP_N (SOP, 8-Leads, Body 3x3mm, Pitch 0.65mm, Thermal Pad 1.76x1.425mm, IPC Medium Density)
footprint TI-DGN8-1760X1425TP_L (SOP, 8-Leads, Body 3x3mm, Pitch 0.65mm, Thermal Pad 1.76x1.425mm, IPC High Density)
footprint TI-DGN8-1760X1425TP_M (SOP, 8-Leads, Body 3x3mm, Pitch 0.65mm, Thermal Pad 1.76 x 1.425 mm, IPC Low Density)
pins: 1 NULL (in), 2 IN- (in), 3 IN+ (in), 4 VCC- (power), 5 NC, 6 OUT (out), 7 VCC+ (power), 8 NULL (in), 9 EP (power)

## THS4011CDR
designator U?
290 MHz Low-Distortion Voltage-Feedback Amplifier, 9 to 32 V, 0 to 70 degC, 8-pin SOIC (D8), Green (RoHS & no Sb/Br); Manufacturer: Texas Instruments; PartNumber: THS4011CDR; 2nd Harmonic(dBc): 64; 3rd Harmonic(dBc): 78; @ MHz: 5; Acl, min stable gain(V/V): 1; BW @ Acl(MHz): 290; Diff Gain(%): 0.006; Diff Phase(deg): 0.01; Iib(Max)(nA): 8000; Io(Typ)(mA): 110; Iq per channel(Max)(mA): 11; Settling Time (0.1%)(Typ)(ns): 37; Slew Rate(Typ)(V/us): 310; Sub Family: High Output Current Amplifier (>=50mA), High Speed Amplifier (>=50MHz), High Supply Voltage Amplifier (>=30V); THD (Fc is 1 MHz)(Typ)(dB): -80; Vio(Max)(mV): 6; Vn at Flatband(Typ)(nV/rtHz): 7.5; Vs(Max)(V): 32; Vs(Min)(V): 9; DatasheetVersion: SLOS216E; PackageVersion: 4040047-3/M, 06/2011; PackageReference: D8; PackageDescription: 8-Pin Plastic Small Outline, Body 4.9 x 3.9 mm, Pitch 1.27 mm; Supplier 1: Digi-Key; Supplier Part Number 1: THS4011CDR-ND; Supplier 2: Mouser; Supplier Part Number 2: 595-THS4011CDR; Eco-Plan: Green (RoHS & no Sb/Br); Number of Channels: 1; Mounting Technology: Surface Mount; Code_JEDEC: MS-012; ComponentLink1Description: Manufacturer URL; ComponentLink1URL: http://www.ti.com/; ComponentLink2Description: Datasheet; ComponentLink2URL: http://www.ti.com/general/docs/lit/getliterature.tsp?genericPartNumber=THS4011&fileType=pdf; ComponentLink3Description: Package Specification; ComponentLink3URL: http://www.ti.com/litv/pdf/msoi002j
footprint TI-D8_N (SOIC, 8-Leads, Body 4.9x3.9mm, Pitch 1.27mm, IPC Medium Density)
footprint TI-D8_L (SOIC, 8-Leads, Body 4.9x3.9mm, Pitch 1.27mm, IPC High Density)
footprint TI-D8_M (SOIC, 8-Leads, Body 4.9x3.9mm, Pitch 1.27mm, IPC Low Density)
pins: 1 NULL (in), 2 IN- (in), 3 IN+ (in), 4 VCC- (power), 5 NC, 6 OUT (out), 7 VCC+ (power), 8 NULL (in)

## THS4011CDRG4
designator U?
290 MHz Low-Distortion Voltage-Feedback Amplifier, 9 to 32 V, 0 to 70 degC, 8-pin SOIC (D8), Green (RoHS & no Sb/Br); Manufacturer: Texas Instruments; PartNumber: THS4011CDRG4; 2nd Harmonic(dBc): 64; 3rd Harmonic(dBc): 78; @ MHz: 5; Acl, min stable gain(V/V): 1; BW @ Acl(MHz): 290; Diff Gain(%): 0.006; Diff Phase(deg): 0.01; Iib(Max)(nA): 8000; Io(Typ)(mA): 110; Iq per channel(Max)(mA): 11; Settling Time (0.1%)(Typ)(ns): 37; Slew Rate(Typ)(V/us): 310; Sub Family: High Output Current Amplifier (>=50mA), High Speed Amplifier (>=50MHz), High Supply Voltage Amplifier (>=30V); THD (Fc is 1 MHz)(Typ)(dB): -80; Vio(Max)(mV): 6; Vn at Flatband(Typ)(nV/rtHz): 7.5; Vs(Max)(V): 32; Vs(Min)(V): 9; DatasheetVersion: SLOS216E; PackageVersion: 4040047-3/M, 06/2011; PackageReference: D8; PackageDescription: 8-Pin Plastic Small Outline, Body 4.9 x 3.9 mm, Pitch 1.27 mm; Supplier 1: Digi-Key; Supplier Part Number 1: THS4011CDRG4-ND; Supplier 2: Mouser; Supplier Part Number 2: 595-THS4011CDRG4; Eco-Plan: Green (RoHS & no Sb/Br); Number of Channels: 1; Mounting Technology: Surface Mount; Code_JEDEC: MS-012; ComponentLink1Description: Manufacturer URL; ComponentLink1URL: http://www.ti.com/; ComponentLink2Description: Datasheet; ComponentLink2URL: http://www.ti.com/general/docs/lit/getliterature.tsp?genericPartNumber=THS4011&fileType=pdf; ComponentLink3Description: Package Specification; ComponentLink3URL: http://www.ti.com/litv/pdf/msoi002j
footprint TI-D8_N (SOIC, 8-Leads, Body 4.9x3.9mm, Pitch 1.27mm, IPC Medium Density)
footprint TI-D8_L (SOIC, 8-Leads, Body 4.9x3.9mm, Pitch 1.27mm, IPC High Density)
footprint TI-D8_M (SOIC, 8-Leads, Body 4.9x3.9mm, Pitch 1.27mm, IPC Low Density)
pins: 1 NULL (in), 2 IN- (in), 3 IN+ (in), 4 VCC- (power), 5 NC, 6 OUT (out), 7 VCC+ (power), 8 NULL (in)

## THS4011ID
designator U?
290 MHz Low-Distortion Voltage-Feedback Amplifier, 9 to 32 V, -40 to 85 degC, 8-pin SOIC (D8), Green (RoHS & no Sb/Br); Manufacturer: Texas Instruments; PartNumber: THS4011ID; 2nd Harmonic(dBc): 64; 3rd Harmonic(dBc): 78; @ MHz: 5; Acl, min stable gain(V/V): 1; BW @ Acl(MHz): 290; Diff Gain(%): 0.006; Diff Phase(deg): 0.01; Iib(Max)(nA): 8000; Io(Typ)(mA): 110; Iq per channel(Max)(mA): 11; Settling Time (0.1%)(Typ)(ns): 37; Slew Rate(Typ)(V/us): 310; Sub Family: High Output Current Amplifier (>=50mA), High Speed Amplifier (>=50MHz), High Supply Voltage Amplifier (>=30V); THD (Fc is 1 MHz)(Typ)(dB): -80; Vio(Max)(mV): 6; Vn at Flatband(Typ)(nV/rtHz): 7.5; Vs(Max)(V): 32; Vs(Min)(V): 9; DatasheetVersion: SLOS216E; PackageVersion: 4040047-3/M, 06/2011; PackageReference: D8; PackageDescription: 8-Pin Plastic Small Outline, Body 4.9 x 3.9 mm, Pitch 1.27 mm; Supplier 1: Digi-Key; Supplier Part Number 1: 296-7509-5-ND; Supplier 2: Newark; Supplier Part Number 2: 23C2536; Supplier 3: Mouser; Supplier Part Number 3: 595-THS4011ID; Eco-Plan: Green (RoHS & no Sb/Br); Number of Channels: 1; Mounting Technology: Surface Mount; Code_JEDEC: MS-012; ComponentLink1Description: Manufacturer URL; ComponentLink1URL: http://www.ti.com/; ComponentLink2Description: Datasheet; ComponentLink2URL: http://www.ti.com/general/docs/lit/getliterature.tsp?genericPartNumber=THS4011&fileType=pdf; ComponentLink3Description: Package Specification; ComponentLink3URL: http://www.ti.com/litv/pdf/msoi002j
footprint TI-D8_N (SOIC, 8-Leads, Body 4.9x3.9mm, Pitch 1.27mm, IPC Medium Density)
footprint TI-D8_L (SOIC, 8-Leads, Body 4.9x3.9mm, Pitch 1.27mm, IPC High Density)
footprint TI-D8_M (SOIC, 8-Leads, Body 4.9x3.9mm, Pitch 1.27mm, IPC Low Density)
pins: 1 NULL (in), 2 IN- (in), 3 IN+ (in), 4 VCC- (power), 5 NC, 6 OUT (out), 7 VCC+ (power), 8 NULL (in)

## THS4011IDG4
designator U?
290 MHz Low-Distortion Voltage-Feedback Amplifier, 9 to 32 V, -40 to 85 degC, 8-pin SOIC (D8), Green (RoHS & no Sb/Br); Manufacturer: Texas Instruments; PartNumber: THS4011IDG4; 2nd Harmonic(dBc): 64; 3rd Harmonic(dBc): 78; @ MHz: 5; Acl, min stable gain(V/V): 1; BW @ Acl(MHz): 290; Diff Gain(%): 0.006; Diff Phase(deg): 0.01; Iib(Max)(nA): 8000; Io(Typ)(mA): 110; Iq per channel(Max)(mA): 11; Settling Time (0.1%)(Typ)(ns): 37; Slew Rate(Typ)(V/us): 310; Sub Family: High Output Current Amplifier (>=50mA), High Speed Amplifier (>=50MHz), High Supply Voltage Amplifier (>=30V); THD (Fc is 1 MHz)(Typ)(dB): -80; Vio(Max)(mV): 6; Vn at Flatband(Typ)(nV/rtHz): 7.5; Vs(Max)(V): 32; Vs(Min)(V): 9; DatasheetVersion: SLOS216E; PackageVersion: 4040047-3/M, 06/2011; PackageReference: D8; PackageDescription: 8-Pin Plastic Small Outline, Body 4.9 x 3.9 mm, Pitch 1.27 mm; Supplier 1: Digi-Key; Supplier Part Number 1: THS4011IDG4-ND; Supplier 2: Mouser; Supplier Part Number 2: 595-THS4011IDG4; Eco-Plan: Green (RoHS & no Sb/Br); Number of Channels: 1; Mounting Technology: Surface Mount; Code_JEDEC: MS-012; ComponentLink1Description: Manufacturer URL; ComponentLink1URL: http://www.ti.com/; ComponentLink2Description: Datasheet; ComponentLink2URL: http://www.ti.com/general/docs/lit/getliterature.tsp?genericPartNumber=THS4011&fileType=pdf; ComponentLink3Description: Package Specification; ComponentLink3URL: http://www.ti.com/litv/pdf/msoi002j
footprint TI-D8_N (SOIC, 8-Leads, Body 4.9x3.9mm, Pitch 1.27mm, IPC Medium Density)
footprint TI-D8_L (SOIC, 8-Leads, Body 4.9x3.9mm, Pitch 1.27mm, IPC High Density)
footprint TI-D8_M (SOIC, 8-Leads, Body 4.9x3.9mm, Pitch 1.27mm, IPC Low Density)
pins: 1 NULL (in), 2 IN- (in), 3 IN+ (in), 4 VCC- (power), 5 NC, 6 OUT (out), 7 VCC+ (power), 8 NULL (in)

## THS4011IDGN
designator U?
290 MHz Low-Distortion Voltage-Feedback Amplifier, 9 to 32 V, -40 to 85 degC, 8-pin SOP (DGN8), Green (RoHS & no Sb/Br); Manufacturer: Texas Instruments; PartNumber: THS4011IDGN; 2nd Harmonic(dBc): 64; 3rd Harmonic(dBc): 78; @ MHz: 5; Acl, min stable gain(V/V): 1; BW @ Acl(MHz): 290; Diff Gain(%): 0.006; Diff Phase(deg): 0.01; Iib(Max)(nA): 8000; Io(Typ)(mA): 110; Iq per channel(Max)(mA): 11; Settling Time (0.1%)(Typ)(ns): 37; Slew Rate(Typ)(V/us): 310; Sub Family: High Output Current Amplifier (>=50mA), High Speed Amplifier (>=50MHz), High Supply Voltage Amplifier (>=30V); THD (Fc is 1 MHz)(Typ)(dB): -80; Vio(Max)(mV): 6; Vn at Flatband(Typ)(nV/rtHz): 7.5; Vs(Max)(V): 32; Vs(Min)(V): 9; DatasheetVersion: SLOS216E; PackageVersion: 4073271/F, 05/2011; PackageReference: DGN8-1760X1425TP; PackageDescription: 8-pin Plastic Small Outline, Body 3 x 3 mm, Pitch 0.65 mm; Supplier 1: Digi-Key; Supplier Part Number 1: THS4011IDGN-ND; Supplier 2: Mouser; Supplier Part Number 2: 595-THS4011IDGN; Eco-Plan: Green (RoHS & no Sb/Br); Number of Channels: 1; Mounting Technology: Surface Mount; Code_JEDEC: MO-187; ComponentLink1Description: Manufacturer URL; ComponentLink1URL: http://www.ti.com/; ComponentLink2Description: Datasheet; ComponentLink2URL: http://www.ti.com/general/docs/lit/getliterature.tsp?genericPartNumber=THS4011&fileType=pdf; ComponentLink3Description: Package Specification; ComponentLink3URL: http://www.ti.com/litv/pdf/mpds046e
footprint TI-DGN8-1760X1425TP_N (SOP, 8-Leads, Body 3x3mm, Pitch 0.65mm, Thermal Pad 1.76x1.425mm, IPC Medium Density)
footprint TI-DGN8-1760X1425TP_L (SOP, 8-Leads, Body 3x3mm, Pitch 0.65mm, Thermal Pad 1.76x1.425mm, IPC High Density)
footprint TI-DGN8-1760X1425TP_M (SOP, 8-Leads, Body 3x3mm, Pitch 0.65mm, Thermal Pad 1.76 x 1.425 mm, IPC Low Density)
pins: 1 NULL (in), 2 IN- (in), 3 IN+ (in), 4 VCC- (power), 5 NC, 6 OUT (out), 7 VCC+ (power), 8 NULL (in), 9 EP (power)

## THS4011IDGNG4
designator U?
290 MHz Low-Distortion Voltage-Feedback Amplifier, 9 to 32 V, -40 to 85 degC, 8-pin SOP (DGN8), Green (RoHS & no Sb/Br); Manufacturer: Texas Instruments; PartNumber: THS4011IDGNG4; 2nd Harmonic(dBc): 64; 3rd Harmonic(dBc): 78; @ MHz: 5; Acl, min stable gain(V/V): 1; BW @ Acl(MHz): 290; Diff Gain(%): 0.006; Diff Phase(deg): 0.01; Iib(Max)(nA): 8000; Io(Typ)(mA): 110; Iq per channel(Max)(mA): 11; Settling Time (0.1%)(Typ)(ns): 37; Slew Rate(Typ)(V/us): 310; Sub Family: High Output Current Amplifier (>=50mA), High Speed Amplifier (>=50MHz), High Supply Voltage Amplifier (>=30V); THD (Fc is 1 MHz)(Typ)(dB): -80; Vio(Max)(mV): 6; Vn at Flatband(Typ)(nV/rtHz): 7.5; Vs(Max)(V): 32; Vs(Min)(V): 9; DatasheetVersion: SLOS216E; PackageVersion: 4073271/F, 05/2011; PackageReference: DGN8-1760X1425TP; PackageDescription: 8-pin Plastic Small Outline, Body 3 x 3 mm, Pitch 0.65 mm; Supplier 1: Digi-Key; Supplier Part Number 1: THS4011IDGNG4-ND; Supplier 2: Mouser; Supplier Part Number 2: 595-THS4011IDGNG4; Eco-Plan: Green (RoHS & no Sb/Br); Number of Channels: 1; Mounting Technology: Surface Mount; Code_JEDEC: MO-187; ComponentLink1Description: Manufacturer URL; ComponentLink1URL: http://www.ti.com/; ComponentLink2Description: Datasheet; ComponentLink2URL: http://www.ti.com/general/docs/lit/getliterature.tsp?genericPartNumber=THS4011&fileType=pdf; ComponentLink3Description: Package Specification; ComponentLink3URL: http://www.ti.com/litv/pdf/mpds046e
footprint TI-DGN8-1760X1425TP_N (SOP, 8-Leads, Body 3x3mm, Pitch 0.65mm, Thermal Pad 1.76x1.425mm, IPC Medium Density)
footprint TI-DGN8-1760X1425TP_L (SOP, 8-Leads, Body 3x3mm, Pitch 0.65mm, Thermal Pad 1.76x1.425mm, IPC High Density)
footprint TI-DGN8-1760X1425TP_M (SOP, 8-Leads, Body 3x3mm, Pitch 0.65mm, Thermal Pad 1.76 x 1.425 mm, IPC Low Density)
pins: 1 NULL (in), 2 IN- (in), 3 IN+ (in), 4 VCC- (power), 5 NC, 6 OUT (out), 7 VCC+ (power), 8 NULL (in), 9 EP (power)

## THS4011IDGNR
designator U?
290 MHz Low-Distortion Voltage-Feedback Amplifier, 9 to 32 V, -40 to 85 degC, 8-pin SOP (DGN8), Green (RoHS & no Sb/Br); Manufacturer: Texas Instruments; PartNumber: THS4011IDGNR; 2nd Harmonic(dBc): 64; 3rd Harmonic(dBc): 78; @ MHz: 5; Acl, min stable gain(V/V): 1; BW @ Acl(MHz): 290; Diff Gain(%): 0.006; Diff Phase(deg): 0.01; Iib(Max)(nA): 8000; Io(Typ)(mA): 110; Iq per channel(Max)(mA): 11; Settling Time (0.1%)(Typ)(ns): 37; Slew Rate(Typ)(V/us): 310; Sub Family: High Output Current Amplifier (>=50mA), High Speed Amplifier (>=50MHz), High Supply Voltage Amplifier (>=30V); THD (Fc is 1 MHz)(Typ)(dB): -80; Vio(Max)(mV): 6; Vn at Flatband(Typ)(nV/rtHz): 7.5; Vs(Max)(V): 32; Vs(Min)(V): 9; DatasheetVersion: SLOS216E; PackageVersion: 4073271/F, 05/2011; PackageReference: DGN8-1760X1425TP; PackageDescription: 8-pin Plastic Small Outline, Body 3 x 3 mm, Pitch 0.65 mm; Supplier 1: Digi-Key; Supplier Part Number 1: 296-7510-2-ND; Supplier 2: Digi-Key; Supplier Part Number 2: 296-7510-1-ND; Supplier 3: Digi-Key; Supplier Part Number 3: 296-7510-6-ND; Supplier 4: Newark; Supplier Part Number 4: 76C6278; Supplier 5: Mouser; Supplier Part Number 5: 595-THS4011IDGNR; Eco-Plan: Green (RoHS & no Sb/Br); Number of Channels: 1; Mounting Technology: Surface Mount; Code_JEDEC: MO-187; ComponentLink1Description: Manufacturer URL; ComponentLink1URL: http://www.ti.com/; ComponentLink2Description: Datasheet; ComponentLink2URL: http://www.ti.com/general/docs/lit/getliterature.tsp?genericPartNumber=THS4011&fileType=pdf; ComponentLink3Description: Package Specification; ComponentLink3URL: http://www.ti.com/litv/pdf/mpds046e
footprint TI-DGN8-1760X1425TP_N (SOP, 8-Leads, Body 3x3mm, Pitch 0.65mm, Thermal Pad 1.76x1.425mm, IPC Medium Density)
footprint TI-DGN8-1760X1425TP_L (SOP, 8-Leads, Body 3x3mm, Pitch 0.65mm, Thermal Pad 1.76x1.425mm, IPC High Density)
footprint TI-DGN8-1760X1425TP_M (SOP, 8-Leads, Body 3x3mm, Pitch 0.65mm, Thermal Pad 1.76 x 1.425 mm, IPC Low Density)
pins: 1 NULL (in), 2 IN- (in), 3 IN+ (in), 4 VCC- (power), 5 NC, 6 OUT (out), 7 VCC+ (power), 8 NULL (in), 9 EP (power)

## THS4011IDGNRG4
designator U?
290 MHz Low-Distortion Voltage-Feedback Amplifier, 9 to 32 V, -40 to 85 degC, 8-pin SOP (DGN8), Green (RoHS & no Sb/Br); Manufacturer: Texas Instruments; PartNumber: THS4011IDGNRG4; 2nd Harmonic(dBc): 64; 3rd Harmonic(dBc): 78; @ MHz: 5; Acl, min stable gain(V/V): 1; BW @ Acl(MHz): 290; Diff Gain(%): 0.006; Diff Phase(deg): 0.01; Iib(Max)(nA): 8000; Io(Typ)(mA): 110; Iq per channel(Max)(mA): 11; Settling Time (0.1%)(Typ)(ns): 37; Slew Rate(Typ)(V/us): 310; Sub Family: High Output Current Amplifier (>=50mA), High Speed Amplifier (>=50MHz), High Supply Voltage Amplifier (>=30V); THD (Fc is 1 MHz)(Typ)(dB): -80; Vio(Max)(mV): 6; Vn at Flatband(Typ)(nV/rtHz): 7.5; Vs(Max)(V): 32; Vs(Min)(V): 9; DatasheetVersion: SLOS216E; PackageVersion: 4073271/F, 05/2011; PackageReference: DGN8-1760X1425TP; PackageDescription: 8-pin Plastic Small Outline, Body 3 x 3 mm, Pitch 0.65 mm; Supplier 1: Digi-Key; Supplier Part Number 1: THS4011IDGNRG4-ND; Supplier 2: Mouser; Supplier Part Number 2: 595-THS4011IDGNRG4; Eco-Plan: Green (RoHS & no Sb/Br); Number of Channels: 1; Mounting Technology: Surface Mount; Code_JEDEC: MO-187; ComponentLink1Description: Manufacturer URL; ComponentLink1URL: http://www.ti.com/; ComponentLink2Description: Datasheet; ComponentLink2URL: http://www.ti.com/general/docs/lit/getliterature.tsp?genericPartNumber=THS4011&fileType=pdf; ComponentLink3Description: Package Specification; ComponentLink3URL: http://www.ti.com/litv/pdf/mpds046e
footprint TI-DGN8-1760X1425TP_N (SOP, 8-Leads, Body 3x3mm, Pitch 0.65mm, Thermal Pad 1.76x1.425mm, IPC Medium Density)
footprint TI-DGN8-1760X1425TP_L (SOP, 8-Leads, Body 3x3mm, Pitch 0.65mm, Thermal Pad 1.76x1.425mm, IPC High Density)
footprint TI-DGN8-1760X1425TP_M (SOP, 8-Leads, Body 3x3mm, Pitch 0.65mm, Thermal Pad 1.76 x 1.425 mm, IPC Low Density)
pins: 1 NULL (in), 2 IN- (in), 3 IN+ (in), 4 VCC- (power), 5 NC, 6 OUT (out), 7 VCC+ (power), 8 NULL (in), 9 EP (power)

## THS4011MFKB
designator U?
290 MHz Low-Distortion Voltage-Feedback Amplifier, 9 to 32 V, -55 to 125 degC, 20-pin LCC (FK20); Manufacturer: Texas Instruments; PartNumber: THS4011MFKB; 2nd Harmonic(dBc): 64; 3rd Harmonic(dBc): 78; @ MHz: 5; Acl, min stable gain(V/V): 1; BW @ Acl(MHz): 290; Diff Gain(%): 0.006; Diff Phase(deg): 0.01; Iib(Max)(nA): 8000; Io(Typ)(mA): 110; Iq per channel(Max)(mA): 11; Settling Time (0.1%)(Typ)(ns): 37; Slew Rate(Typ)(V/us): 310; Sub Family: High Output Current Amplifier (>=50mA), High Speed Amplifier (>=50MHz), High Supply Voltage Amplifier (>=30V); THD (Fc is 1 MHz)(Typ)(dB): -80; Vio(Max)(mV): 6; Vn at Flatband(Typ)(nV/rtHz): 7.5; Vs(Max)(V): 32; Vs(Min)(V): 9; DatasheetVersion: SLOS216E; PackageVersion: 4040140/D, 01/2011; PackageReference: FK20; PackageDescription: 20-Pin Ceramic, Metal Chip Carrier, Body 8.89 x 8.89 mm, Pitch 1.27 mm; Number of Channels: 1; Mounting Technology: Surface Mount; Code_JEDEC: MS-004; ComponentLink1Description: Manufacturer URL; ComponentLink1URL: http://www.ti.com/; ComponentLink2Description: Datasheet; ComponentLink2URL: http://www.ti.com/general/docs/lit/getliterature.tsp?genericPartNumber=THS4011M&fileType=pdf; ComponentLink3Description: Package Specification; ComponentLink3URL: http://www.ti.com/litv/pdf/mlcc006d
footprint TI-FK20_N (Leadless Chip Carrier, 20-Leads, Body 8.9x8.9mm, Pitch 1.27mm, IPC Medium Density)
footprint TI-FK20_L (Leadless Chip Carrier, 20-Leads, Body 8.9x8.9mm, Pitch 1.27mm, IPC High Density)
footprint TI-FK20_M (Leadless Chip Carrier, 20-Leads, Body 8.9x8.9mm, Pitch 1.27mm, IPC Low Density)
part A pins: 2 NULL (in), 5 IN- (in), 7 IN+ (in), 10 VCC- (power), 15 OUT (out), 17 VCC+ (power), 20 NULL (in)
part B pins: 1 NC, 3 NC, 4 NC, 6 NC, 8 NC, 9 NC, 11 NC, 12 NC, 13 NC, 14 NC, 16 NC, 18 NC, 19 NC

## THS4011MJG
designator U?
290 MHz Low-Distortion Voltage-Feedback Amplifier, 9 to 32 V, -55 to 125 degC, 8-pin DIP (JG8); Manufacturer: Texas Instruments; PartNumber: THS4011MJG; 2nd Harmonic(dBc): 64; 3rd Harmonic(dBc): 78; @ MHz: 5; Acl, min stable gain(V/V): 1; BW @ Acl(MHz): 290; Diff Gain(%): 0.006; Diff Phase(deg): 0.01; Iib(Max)(nA): 8000; Io(Typ)(mA): 110; Iq per channel(Max)(mA): 11; Settling Time (0.1%)(Typ)(ns): 37; Slew Rate(Typ)(V/us): 310; Sub Family: High Output Current Amplifier (>=50mA), High Speed Amplifier (>=50MHz), High Supply Voltage Amplifier (>=30V); THD (Fc is 1 MHz)(Typ)(dB): -80; Vio(Max)(mV): 6; Vn at Flatband(Typ)(nV/rtHz): 7.5; Vs(Max)(V): 32; Vs(Min)(V): 9; DatasheetVersion: SLOS216E; PackageVersion: 4040107/C, 08/1996; PackageReference: JG8; PackageDescription: 8-Pin Ceramic, Glass In-Line, Body 9.58 x 6.665 mm, Pitch 2.54 mm; Number of Channels: 1; Mounting Technology: Through Hole; ComponentLink1Description: Manufacturer URL; ComponentLink1URL: http://www.ti.com/; ComponentLink2Description: Datasheet; ComponentLink2URL: http://www.ti.com/general/docs/lit/getliterature.tsp?genericPartNumber=THS4011M&fileType=pdf; ComponentLink3Description: Package Specification; ComponentLink3URL: http://www.ti.com/litv/pdf/mcer001a
footprint TI-JG8 (DIP, 8-Leads, Body 10.15x7.1mm, Pitch 2.54mm)
pins: 1 NULL (in), 2 IN- (in), 3 IN+ (in), 4 VCC- (power), 5 NC, 6 OUT (out), 7 VCC+ (power), 8 NULL (in)